# EAGLE library part ATMEGA328-MU (library IC-Microcontrollers)
MCU 8-bit ATmega AVR RISC 32KB Flash Atmel ATMEGA328-MU, 8bit AVR Microcontroller, 20MHz, 32 kB Flash, 32-Pin MLF Source: Datasheet <https://componentsearchengine.com/Datasheets/2/ATMEGA328-MU.pdf>
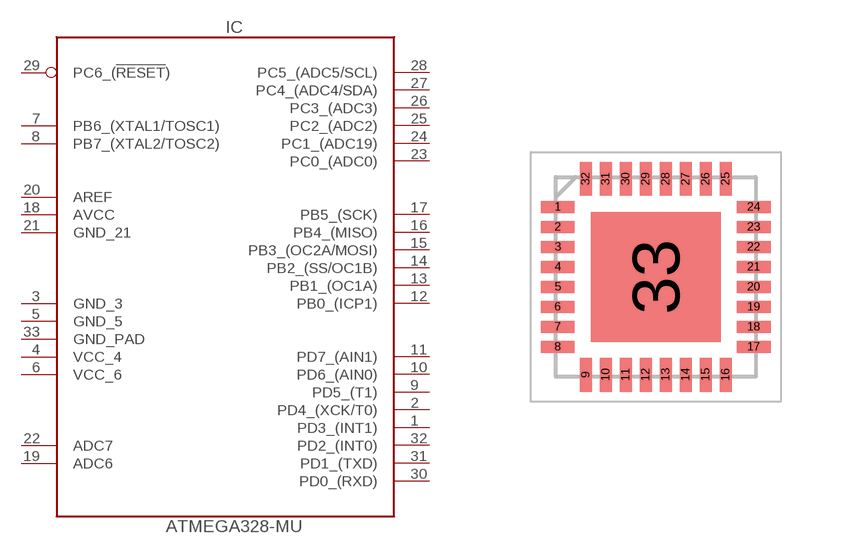
[diagram p5: symbol with the pads of QFN50P500X500X100-33N; footprint QFN50P500X500X100-33N]

Designator prefix IC

## ATMEGA328-MU (DATASHEET: value; DESCRIPTION: MCU 8-bit ATmega AVR RISC 32KB Flash Atmel ATMEGA328-MU, 8bit AVR Microcontroller, 20MHz, 32 kB Flash, 32-Pin MLF; DIGIKEY-PART-NUMBER: value; LINK: value; MANUFACTURER: value; MPN: value; TECHNOLOGY: value; UNIT-PRICE: value)  [QFN50P500X500X100-33N]
1  PD3_(INT1)
2  PD4_(XCK/T0)
3  GND_3
4  VCC_4
5  GND_5
6  VCC_6
7  PB6_(XTAL1/TOSC1)
8  PB7_(XTAL2/TOSC2)
9  PD5_(T1)
10  PD6_(AIN0)
11  PD7_(AIN1)
12  PB0_(ICP1)
13  PB1_(OC1A)
14  PB2_(SS/OC1B)
15  PB3_(OC2A/MOSI)
16  PB4_(MISO)
17  PB5_(SCK)
18  AVCC
19  ADC6
20  AREF
21  GND_21
22  ADC7
23  PC0_(ADC0)
24  PC1_(ADC19)
25  PC2_(ADC2)
26  PC3_(ADC3)
27  PC4_(ADC4/SDA)
28  PC5_(ADC5/SCL)
29  PC6_(!RESET!)
30  PD0_(RXD)
31  PD1_(TXD)
32  PD2_(INT0)
33  GND_PAD

## Footprint QFN50P500X500X100-33N (pad centres in mm)
ATMEGA328-MU
smd 0.85 x 0.3: 1 -2.45,1.75; 2 -2.45,1.25; 3 -2.45,0.75; 4 -2.45,0.25; 5 -2.45,-0.25; 6 -2.45,-0.75; 7 -2.45,-1.25; 8 -2.45,-1.75; 17 2.45,-1.75; 18 2.45,-1.25; 19 2.45,-0.75; 20 2.45,-0.25; 21 2.45,0.25; 22 2.45,0.75; 23 2.45,1.25; 24 2.45,1.75
smd 0.3 x 0.85: 9 -1.75,-2.45; 10 -1.25,-2.45; 11 -0.75,-2.45; 12 -0.25,-2.45; 13 0.25,-2.45; 14 0.75,-2.45; 15 1.25,-2.45; 16 1.75,-2.45; 25 1.75,2.45; 26 1.25,2.45; 27 0.75,2.45; 28 0.25,2.45; 29 -0.25,2.45; 30 -0.75,2.45; 31 -1.25,2.45; 32 -1.75,2.45
smd 3.25 x 3.25: 33 0,0